# Altium integrated library NSC MiscPower.IntLib: 742 symbols (part 8 of 19)
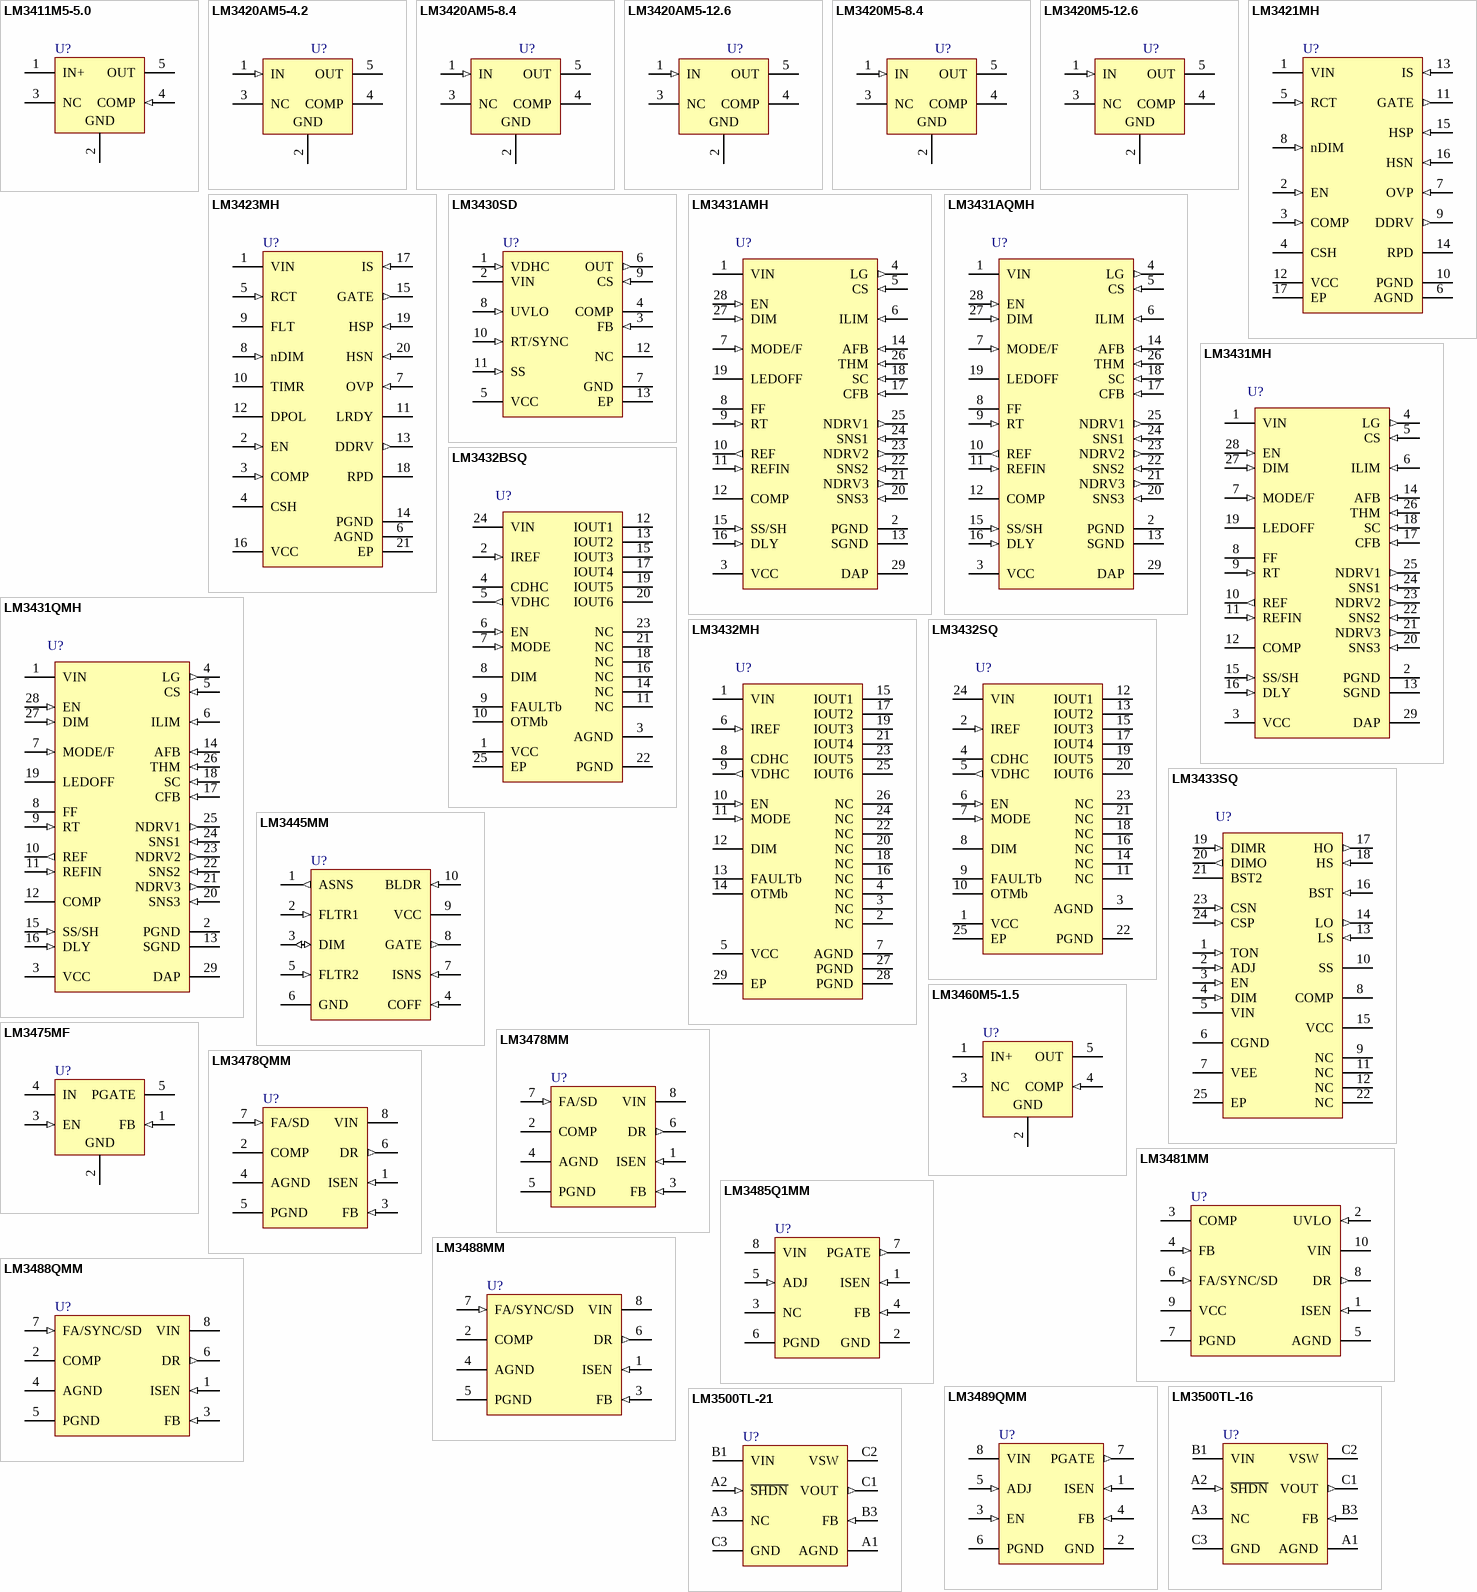
[diagram p32: symbols LM3411M5-5.0 to LM3500TL-21]

## LM3481MM
designator U?
High Efficiency Low-Side N-Channel Controller for Switching Regulators; PartNumber: LM3481MM; Manufacturer: National Semiconductor; CompType: MiscPower; PackageTopMarking: ZXTT*SJPB; PowerWise: N; Published: 4-Dec-2008; DatasheetVersion: Nov-2007; PackageVersion: revB, Jul-2003; PackageReference: MUB10A; Publisher: Altium Limited; PackageDescription: Mini-SO, Molded, .118 x .118 x .034in Body, 10 Lead, .0197in Pitch; RoHS: Y; PinCount: 10; DigiKeyPartNumber: LM3481MMCT-ND; Code_JEDEC: MO-187-BA; ComponentLink1Description: LM3481 Datasheet; ComponentLink1URL: http://www.national.com/ds/LM/LM3481.pdf; ComponentLink2Description: LM3481 Web Page; ComponentLink2URL: http://www.national.com/pf/LM/LM3481.html; ComponentLink3Description: MUB10A Package Page; ComponentLink3URL: http://www.national.com/packaging/folders/mub10a.html
footprint MUB10A_N (TSSOP, 10-Leads, Body 3x3mm, Pitch 0.5mm, IPC Medium Density)
footprint MUB10A_L (TSSOP, 10-Leads, Body 3x3mm, Pitch 0.5mm, IPC High Density)
footprint MUB10A_M (TSSOP, 10-Leads, Body 3x3mm, Pitch 0.5mm, IPC Low Density)
pins: 1 ISEN (in), 2 UVLO (in), 3 COMP, 4 FB (in), 5 AGND (power), 6 FA/SYNC/SD (in), 7 PGND (power), 8 DR (out), 9 VCC (power), 10 VIN (power)

## LM3485Q1MM
designator U?
Hysteretic PFET Buck Controller, Automotive Grade 1; PartNumber: LM3485Q1MM; Manufacturer: National Semiconductor; CompType: MiscPower; PackageTopMarking: ZXTT*SVJB; PowerWise: N; Published: 29-May-2009; DatasheetVersion: Mar-2009; PackageVersion: revF, Apr-2008; PackageReference: MUA08A; Publisher: Altium Limited; PackageDescription: MINI SOIC, .118 x .118 x .034in, 8 Lead, .0256in Pitch; RoHS: Y; PinCount: 8; Code_JEDEC: MO-187-AA; ComponentLink1Description: LM3485 Datasheet; ComponentLink1URL: http://www.national.com/ds/LM/LM3485.pdf; ComponentLink2Description: LM3485 Web Page; ComponentLink2URL: http://www.national.com/mpf/LM/LM3485.html; ComponentLink3Description: MUA08A Package Page; ComponentLink3URL: http://www.national.com/packaging/folders/mua08a.html
footprint MUA08A_N (TSOP, 8-Leads, Body 3x3mm, Pitch 0.65mm, IPC Medium Density)
footprint MUA08A_L (TSOP, 8-Leads, Body 3x3mm, Pitch 0.65mm, IPC High Density)
footprint MUA08A_M (TSOP, 8-Leads, Body 3x3mm, Pitch 0.65mm, IPC Low Density)
pins: 1 ISEN (in), 2 GND (power), 3 NC, 4 FB (in), 5 ADJ (in), 6 PGND (power), 7 PGATE (out), 8 VIN (power)

## LM3488MM
designator U?
High Efficiency Low-Side N-Channel Controller for Switching Regulator; PartNumber: LM3488MM; Manufacturer: National Semiconductor; CompType: MiscPower; PackageTopMarking: ZXTT*S21B; PowerWise: N; Published: 4-Dec-2008; DatasheetVersion: Mar-2009; PackageVersion: revF, Apr-2008; PackageReference: MUA08A; Publisher: Altium Limited; PackageDescription: MINI SOIC, .118 x .118 x .034in, 8 Lead, .0256in Pitch; RoHS: O; PinCount: 8; DigiKeyPartNumber: LM3488MMCT-ND; Code_JEDEC: MO-187-AA; ComponentLink1Description: LM3488 Datasheet; ComponentLink1URL: http://www.national.com/ds/LM/LM3488.pdf; ComponentLink2Description: LM3488 Web Page; ComponentLink2URL: http://www.national.com/pf/LM/LM3488.html; ComponentLink3Description: MUA08A Package Page; ComponentLink3URL: http://www.national.com/packaging/folders/mua08a.html
footprint MUA08A_N (TSOP, 8-Leads, Body 3x3mm, Pitch 0.65mm, IPC Medium Density)
footprint MUA08A_L (TSOP, 8-Leads, Body 3x3mm, Pitch 0.65mm, IPC High Density)
footprint MUA08A_M (TSOP, 8-Leads, Body 3x3mm, Pitch 0.65mm, IPC Low Density)
pins: 1 ISEN (in), 2 COMP, 3 FB (in), 4 AGND (power), 5 PGND (power), 6 DR (out), 7 FA/SYNC/SD (in), 8 VIN (power)

## LM3488QMM
designator U?
High Efficiency Low-Side N-Channel Controller for Switching Regulator, Automotive Grade 1; PartNumber: LM3488QMM; Manufacturer: National Semiconductor; CompType: MiscPower; PackageTopMarking: ZXTT*SSKB; PowerWise: N; Published: 29-May-2009; DatasheetVersion: Mar-2009; PackageVersion: revF, Apr-2008; PackageReference: MUA08A; Publisher: Altium Limited; PackageDescription: MINI SOIC, .118 x .118 x .034in, 8 Lead, .0256in Pitch; RoHS: Y; PinCount: 8; Code_JEDEC: MO-187-AA; ComponentLink1Description: LM3488 Datasheet; ComponentLink1URL: http://www.national.com/ds/LM/LM3488.pdf; ComponentLink2Description: LM3488 Web Page; ComponentLink2URL: http://www.national.com/mpf/LM/LM3488Q.html; ComponentLink3Description: MUA08A Package Page; ComponentLink3URL: http://www.national.com/packaging/folders/mua08a.html
footprint MUA08A_N (TSOP, 8-Leads, Body 3x3mm, Pitch 0.65mm, IPC Medium Density)
footprint MUA08A_L (TSOP, 8-Leads, Body 3x3mm, Pitch 0.65mm, IPC High Density)
footprint MUA08A_M (TSOP, 8-Leads, Body 3x3mm, Pitch 0.65mm, IPC Low Density)
pins: 1 ISEN (in), 2 COMP, 3 FB (in), 4 AGND (power), 5 PGND (power), 6 DR (out), 7 FA/SYNC/SD (in), 8 VIN (power)

## LM3489QMM
designator U?
Hysteretic PFET Buck Controller with Enable Pin; PartNumber: LM3489QMM; Manufacturer: National Semiconductor; CompType: MiscPower; PackageTopMarking: ZXTT*STEB; PowerWise: N; Published: 4-Dec-2008; DatasheetVersion: Jun-2008; PackageVersion: revF, Apr-2008; PackageReference: MUA08A; Publisher: Altium Limited; PackageDescription: MINI SOIC, .118 x .118 x .034in, 8 Lead, .0256in Pitch; RoHS: Y; PinCount: 8; Code_JEDEC: MO-187-AA; ComponentLink1Description: LM3489 Datasheet; ComponentLink1URL: http://www.national.com/ds/LM/LM3489.pdf; ComponentLink2Description: LM3489 Web Page; ComponentLink2URL: http://www.national.com/pf/LM/LM3489.html; ComponentLink3Description: MUA08A Package Page; ComponentLink3URL: http://www.national.com/packaging/folders/mua08a.html
footprint MUA08A_N (TSOP, 8-Leads, Body 3x3mm, Pitch 0.65mm, IPC Medium Density)
footprint MUA08A_L (TSOP, 8-Leads, Body 3x3mm, Pitch 0.65mm, IPC High Density)
footprint MUA08A_M (TSOP, 8-Leads, Body 3x3mm, Pitch 0.65mm, IPC Low Density)
pins: 1 ISEN (in), 2 GND (power), 3 EN (in), 4 FB (in), 5 ADJ (in), 6 PGND (power), 7 PGATE (out), 8 VIN (power)

## LM3500TL-16
designator U?
Synchronous Step-up DC/DC Converter for White LED Applications; PartNumber: LM3500TL-16; Manufacturer: National Semiconductor; CompType: MiscPower; PackageTopMarking: XVS*I 18; PowerWise: N; Published: 4-Dec-2008; DatasheetVersion: Feb-2005; PackageVersion: revC, Jan-2004; PackageReference: TLA08SSA; Publisher: Altium Limited; PackageDescription: Thin Micro SMD, 8 Bump (Large), 0.5mm Pitch; RoHS: Y; PinCount: 8; DigiKeyPartNumber: LM3500TL-16-ND; Code_JEDEC: MO-211-DD; ComponentLink1Description: LM3500 Datasheet; ComponentLink1URL: http://www.national.com/ds/LM/LM3500.pdf; ComponentLink2Description: LM3500 Web Page; ComponentLink2URL: http://www.national.com/pf/LM/LM3500.html; ComponentLink3Description: TLA08SSA Package Page; ComponentLink3URL: http://www.national.com/packaging/folders/tla08ssa.html
footprint TLA08SSA (Micro SMD, 8-Leads, Body 1.92x1.92mm, Pitch 0.5mm, NSC Recommended)
pins: A1 AGND (power), A2 ~{SHDN} (in), A3 NC, B1 VIN (power), B3 FB (in), C1 VOUT (out), C2 VSW, C3 GND (power)

## LM3500TL-21
designator U?
Synchronous Step-up DC/DC Converter for White LED Applications; PartNumber: LM3500TL-21; Manufacturer: National Semiconductor; CompType: MiscPower; PackageTopMarking: XVS*I 23; PowerWise: N; Published: 4-Dec-2008; DatasheetVersion: Feb-2005; PackageVersion: revC, Jan-2004; PackageReference: TLA08SSA; Publisher: Altium Limited; PackageDescription: Thin Micro SMD, 8 Bump (Large), 0.5mm Pitch; RoHS: Y; PinCount: 8; DigiKeyPartNumber: LM3500TL-21CT-ND; Code_JEDEC: MO-211-DD; ComponentLink1Description: LM3500 Datasheet; ComponentLink1URL: http://www.national.com/ds/LM/LM3500.pdf; ComponentLink2Description: LM3500 Web Page; ComponentLink2URL: http://www.national.com/pf/LM/LM3500.html; ComponentLink3Description: TLA08SSA Package Page; ComponentLink3URL: http://www.national.com/packaging/folders/tla08ssa.html
footprint TLA08SSA (Micro SMD, 8-Leads, Body 1.92x1.92mm, Pitch 0.5mm, NSC Recommended)
pins: A1 AGND (power), A2 ~{SHDN} (in), A3 NC, B1 VIN (power), B3 FB (in), C1 VOUT (out), C2 VSW, C3 GND (power)

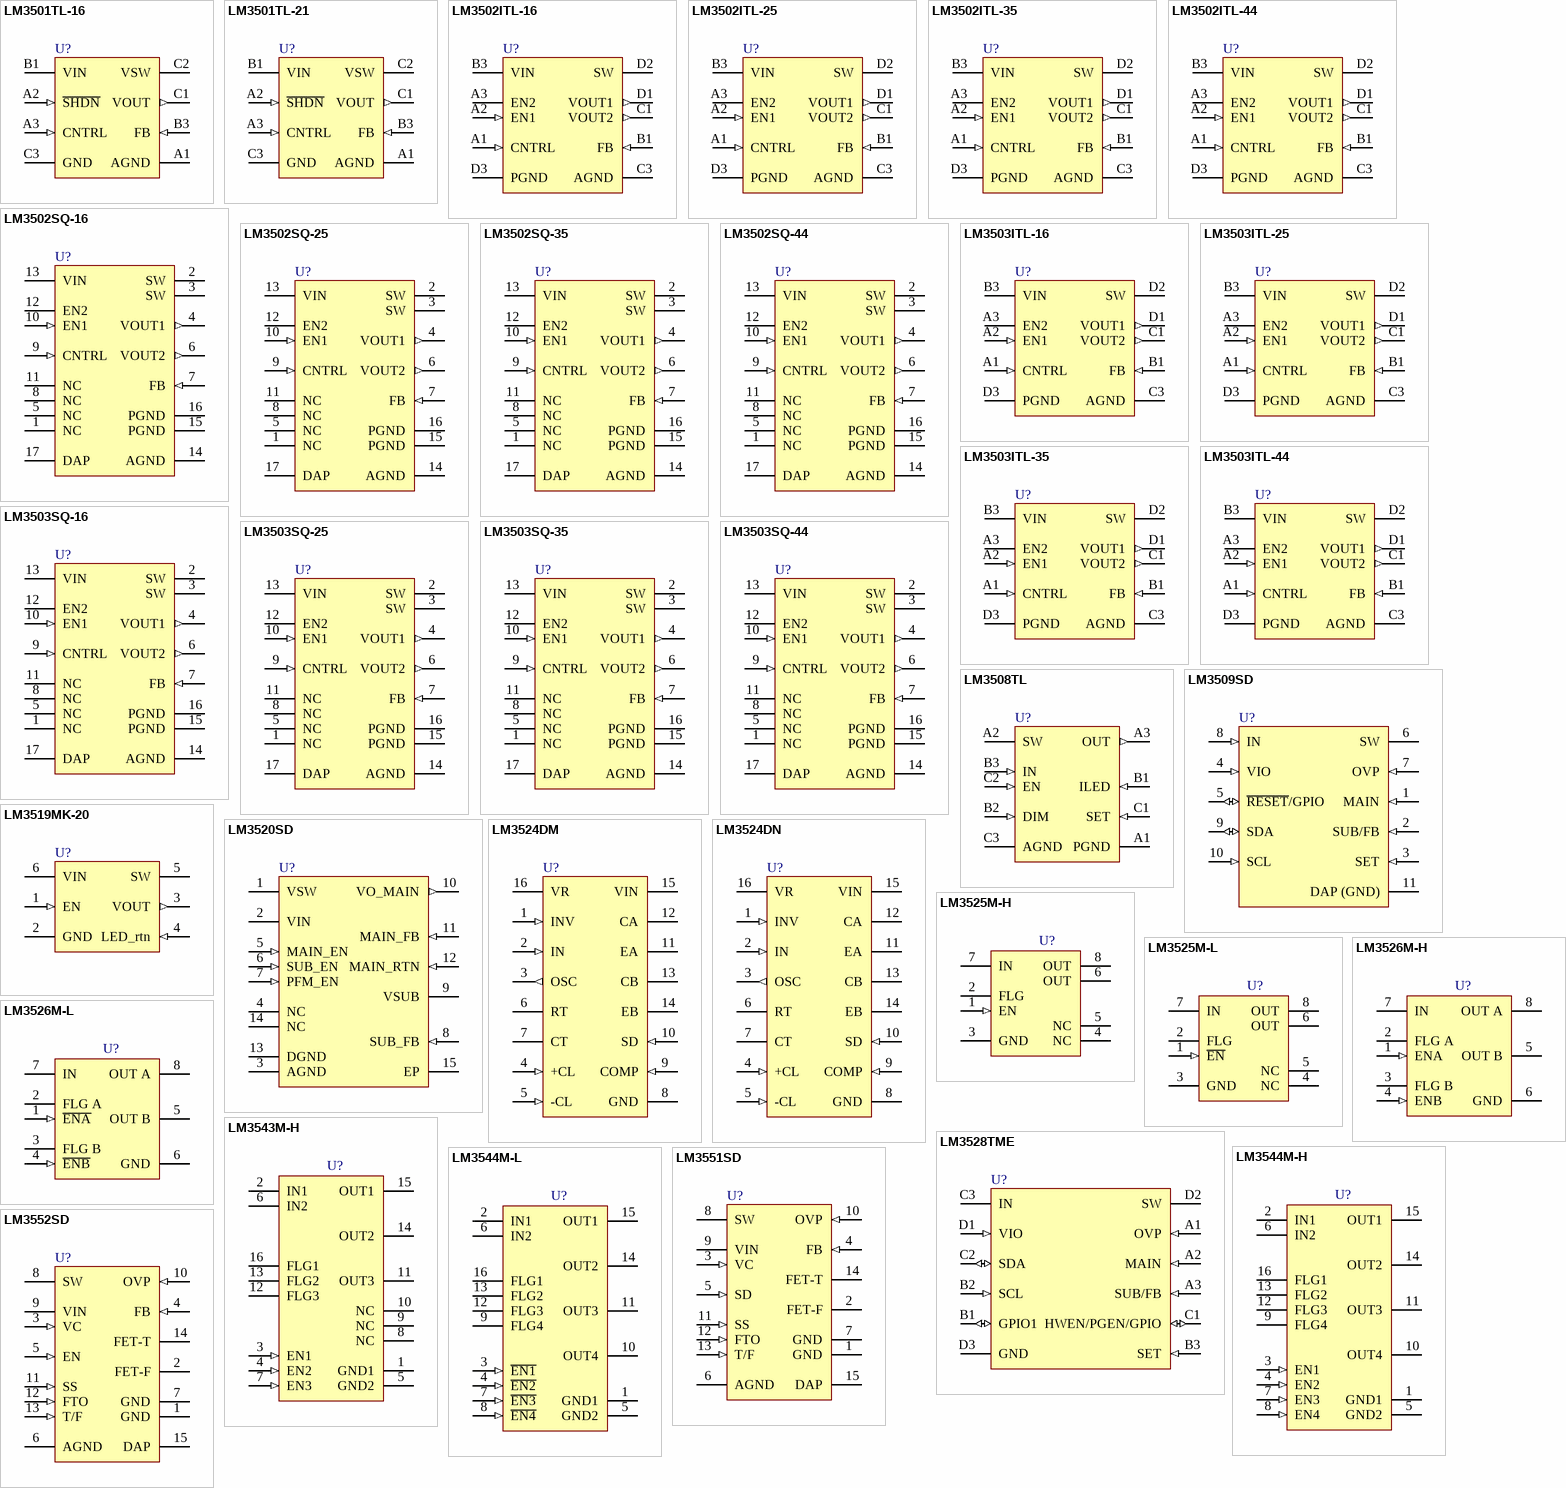
[diagram p9: symbols LM3501TL-16 to LM3552SD]

## LM3501TL-16
designator U?
Synchronous Step-up DC/DC Converter for White LED Applications; PartNumber: LM3501TL-16; Manufacturer: National Semiconductor; CompType: MiscPower; PackageTopMarking: XVS*I 19; PowerWise: N; Published: 4-Dec-2008; DatasheetVersion: May-2005; PackageVersion: revC, Jan-2004; PackageReference: TLA08SSA; Publisher: Altium Limited; PackageDescription: Thin Micro SMD, 8 Bump (Large), 0.5mm Pitch; RoHS: O; PinCount: 8; DigiKeyPartNumber: LM3501TL-16EV-ND; Code_JEDEC: MO-211-DD; ComponentLink1Description: LM3501 Datasheet; ComponentLink1URL: http://www.national.com/ds/LM/LM3501.pdf; ComponentLink2Description: LM3501 Web Page; ComponentLink2URL: http://www.national.com/pf/LM/LM3501.html; ComponentLink3Description: TLA08SSA Package Page; ComponentLink3URL: http://www.national.com/packaging/folders/tla08ssa.html
footprint TLA08SSA (Micro SMD, 8-Leads, Body 1.92x1.92mm, Pitch 0.5mm, NSC Recommended)
pins: A1 AGND (power), A2 ~{SHDN} (in), A3 CNTRL (in), B1 VIN (power), B3 FB (in), C1 VOUT (out), C2 VSW, C3 GND (power)

## LM3501TL-21
designator U?
Synchronous Step-up DC/DC Converter for White LED Applications; PartNumber: LM3501TL-21; Manufacturer: National Semiconductor; CompType: MiscPower; PackageTopMarking: XVS*I 30; PowerWise: N; Published: 4-Dec-2008; DatasheetVersion: May-2005; PackageVersion: revC, Jan-2004; PackageReference: TLA08SSA; Publisher: Altium Limited; PackageDescription: Thin Micro SMD, 8 Bump (Large), 0.5mm Pitch; RoHS: Y; PinCount: 8; DigiKeyPartNumber: LM3501TL-21CT-ND; Code_JEDEC: MO-211-DD; ComponentLink1Description: LM3501 Datasheet; ComponentLink1URL: http://www.national.com/ds/LM/LM3501.pdf; ComponentLink2Description: LM3501 Web Page; ComponentLink2URL: http://www.national.com/pf/LM/LM3501.html; ComponentLink3Description: TLA08SSA Package Page; ComponentLink3URL: http://www.national.com/packaging/folders/tla08ssa.html
footprint TLA08SSA (Micro SMD, 8-Leads, Body 1.92x1.92mm, Pitch 0.5mm, NSC Recommended)
pins: A1 AGND (power), A2 ~{SHDN} (in), A3 CNTRL (in), B1 VIN (power), B3 FB (in), C1 VOUT (out), C2 VSW, C3 GND (power)

## LM3502ITL-16
designator U?
Step-Up Converter for White LED Applications; PartNumber: LM3502ITL-16; Manufacturer: National Semiconductor; CompType: MiscPower; PackageTopMarking: XYTT*I SANB; PowerWise: Y; Published: 4-Dec-2008; DatasheetVersion: Aug-2006; PackageVersion: revD, Mar-2004; PackageReference: TLP10RDA; Publisher: Altium Limited; PackageDescription: Thin Micro SMD, 10 Bump (Large), Periperal, 0.5mm Pitch; RoHS: Y; PinCount: 10; DigiKeyPartNumber: LM3502ITL-16CT-ND; Code_JEDEC: MO-211-BD; ComponentLink1Description: LM3502 Datasheet; ComponentLink1URL: http://www.national.com/ds/LM/LM3502.pdf; ComponentLink2Description: LM3502 Web Page; ComponentLink2URL: http://www.national.com/pf/LM/LM3502.html; ComponentLink3Description: TLP10RDA Package Page; ComponentLink3URL: http://www.national.com/packaging/folders/tlp10rda.html
footprint TLP10RDA (Micro SMD, 10-Leads, Body 2.07x1.9mm, Pitch 0.5mm, NSC Recommended)
pins: A1 CNTRL (in), A2 EN1 (in), A3 EN2, B1 FB (in), B3 VIN (power), C1 VOUT2 (out), C3 AGND (power), D1 VOUT1 (out), D2 SW (power), D3 PGND (power)

## LM3502ITL-25
designator U?
Step-Up Converter for White LED Applications; PartNumber: LM3502ITL-25; Manufacturer: National Semiconductor; CompType: MiscPower; PackageTopMarking: XYTT*I SAPB; PowerWise: Y; Published: 4-Dec-2008; DatasheetVersion: Aug-2006; PackageVersion: revD, Mar-2004; PackageReference: TLP10RDA; Publisher: Altium Limited; PackageDescription: Thin Micro SMD, 10 Bump (Large), Periperal, 0.5mm Pitch; RoHS: Y; PinCount: 10; DigiKeyPartNumber: LM3502ITL-25CT-ND; Code_JEDEC: MO-211-BD; ComponentLink1Description: LM3502 Datasheet; ComponentLink1URL: http://www.national.com/ds/LM/LM3502.pdf; ComponentLink2Description: LM3502 Web Page; ComponentLink2URL: http://www.national.com/pf/LM/LM3502.html; ComponentLink3Description: TLP10RDA Package Page; ComponentLink3URL: http://www.national.com/packaging/folders/tlp10rda.html
footprint TLP10RDA (Micro SMD, 10-Leads, Body 2.07x1.9mm, Pitch 0.5mm, NSC Recommended)
pins: A1 CNTRL (in), A2 EN1 (in), A3 EN2, B1 FB (in), B3 VIN (power), C1 VOUT2 (out), C3 AGND (power), D1 VOUT1 (out), D2 SW (power), D3 PGND (power)

## LM3502ITL-35
designator U?
Step-Up Converter for White LED Applications; PartNumber: LM3502ITL-35; Manufacturer: National Semiconductor; CompType: MiscPower; PackageTopMarking: XYTT*I SARB; PowerWise: Y; Published: 4-Dec-2008; DatasheetVersion: Aug-2006; PackageVersion: revD, Mar-2004; PackageReference: TLP10RDA; Publisher: Altium Limited; PackageDescription: Thin Micro SMD, 10 Bump (Large), Periperal, 0.5mm Pitch; RoHS: Y; PinCount: 10; DigiKeyPartNumber: LM3502ITL-35-ND; Code_JEDEC: MO-211-BD; ComponentLink1Description: LM3502 Datasheet; ComponentLink1URL: http://www.national.com/ds/LM/LM3502.pdf; ComponentLink2Description: LM3502 Web Page; ComponentLink2URL: http://www.national.com/pf/LM/LM3502.html; ComponentLink3Description: TLP10RDA Package Page; ComponentLink3URL: http://www.national.com/packaging/folders/tlp10rda.html
footprint TLP10RDA (Micro SMD, 10-Leads, Body 2.07x1.9mm, Pitch 0.5mm, NSC Recommended)
pins: A1 CNTRL (in), A2 EN1 (in), A3 EN2, B1 FB (in), B3 VIN (power), C1 VOUT2 (out), C3 AGND (power), D1 VOUT1 (out), D2 SW (power), D3 PGND (power)

## LM3502ITL-44
designator U?
Step-Up Converter for White LED Applications; PartNumber: LM3502ITL-44; Manufacturer: National Semiconductor; CompType: MiscPower; PackageTopMarking: XYTT*I SDLB; PowerWise: Y; Published: 4-Dec-2008; DatasheetVersion: Aug-2006; PackageVersion: revD, Mar-2004; PackageReference: TLP10RDA; Publisher: Altium Limited; PackageDescription: Thin Micro SMD, 10 Bump (Large), Periperal, 0.5mm Pitch; RoHS: Y; PinCount: 10; DigiKeyPartNumber: LM3502ITL-44EV-ND; Code_JEDEC: MO-211-BD; ComponentLink1Description: LM3502 Datasheet; ComponentLink1URL: http://www.national.com/ds/LM/LM3502.pdf; ComponentLink2Description: LM3502 Web Page; ComponentLink2URL: http://www.national.com/pf/LM/LM3502.html; ComponentLink3Description: TLP10RDA Package Page; ComponentLink3URL: http://www.national.com/packaging/folders/tlp10rda.html
footprint TLP10RDA (Micro SMD, 10-Leads, Body 2.07x1.9mm, Pitch 0.5mm, NSC Recommended)
pins: A1 CNTRL (in), A2 EN1 (in), A3 EN2, B1 FB (in), B3 VIN (power), C1 VOUT2 (out), C3 AGND (power), D1 VOUT1 (out), D2 SW (power), D3 PGND (power)

## LM3502SQ-16
designator U?
Step-Up Converter for White LED Applications; PartNumber: LM3502SQ-16; Manufacturer: National Semiconductor; CompType: MiscPower; PackageTopMarking: NS*UZXYTT*L00048B; PowerWise: Y; Published: 4-Dec-2008; DatasheetVersion: Aug-2006; PackageVersion: revA, Oct-2003; PackageReference: SQA16A; Publisher: Altium Limited; PackageDescription: LLP, Plastic, Quad, 4 x 4 x 0.8mm Body, 16 Lead, 0.5mm Pitch, No Pullback; RoHS: Y; PinCount: 16; DigiKeyPartNumber: LM3502SQ-16CT-ND; ComponentLink1Description: LM3502 Datasheet; ComponentLink1URL: http://www.national.com/ds/LM/LM3502.pdf; ComponentLink2Description: LM3502 Web Page; ComponentLink2URL: http://www.national.com/pf/LM/LM3502.html; ComponentLink3Description: SQA16A Package Page; ComponentLink3URL: http://www.national.com/packaging/folders/sqa16a.html
footprint SQA16A (QFN, 16-Leads, Body 4x4mm, Pitch 0.5mm, NSC Recommended)
pins: 1 NC, 2 SW (power), 3 SW (power), 4 VOUT1 (out), 5 NC, 6 VOUT2 (out), 7 FB (in), 8 NC, 9 CNTRL (in), 10 EN1 (in), 11 NC, 12 EN2, 13 VIN (power), 14 AGND (power), 15 PGND (power), 16 PGND (power), 17 DAP (power)

## LM3502SQ-25
designator U?
Step-Up Converter for White LED Applications; PartNumber: LM3502SQ-25; Manufacturer: National Semiconductor; CompType: MiscPower; PackageTopMarking: NS*UZXYTT*L00049B; PowerWise: Y; Published: 4-Dec-2008; DatasheetVersion: Aug-2006; PackageVersion: revA, Oct-2003; PackageReference: SQA16A; Publisher: Altium Limited; PackageDescription: LLP, Plastic, Quad, 4 x 4 x 0.8mm Body, 16 Lead, 0.5mm Pitch, No Pullback; RoHS: Y; PinCount: 16; DigiKeyPartNumber: LM3502SQ-25CT-ND; ComponentLink1Description: LM3502 Datasheet; ComponentLink1URL: http://www.national.com/ds/LM/LM3502.pdf; ComponentLink2Description: LM3502 Web Page; ComponentLink2URL: http://www.national.com/pf/LM/LM3502.html; ComponentLink3Description: SQA16A Package Page; ComponentLink3URL: http://www.national.com/packaging/folders/sqa16a.html
footprint SQA16A (QFN, 16-Leads, Body 4x4mm, Pitch 0.5mm, NSC Recommended)
pins: 1 NC, 2 SW (power), 3 SW (power), 4 VOUT1 (out), 5 NC, 6 VOUT2 (out), 7 FB (in), 8 NC, 9 CNTRL (in), 10 EN1 (in), 11 NC, 12 EN2, 13 VIN (power), 14 AGND (power), 15 PGND (power), 16 PGND (power), 17 DAP (power)

## LM3502SQ-35
designator U?
Step-Up Converter for White LED Applications; PartNumber: LM3502SQ-35; Manufacturer: National Semiconductor; CompType: MiscPower; PackageTopMarking: NS*UZXYTT*L00044B; PowerWise: Y; Published: 4-Dec-2008; DatasheetVersion: Aug-2006; PackageVersion: revA, Oct-2003; PackageReference: SQA16A; Publisher: Altium Limited; PackageDescription: LLP, Plastic, Quad, 4 x 4 x 0.8mm Body, 16 Lead, 0.5mm Pitch, No Pullback; RoHS: Y; PinCount: 16; DigiKeyPartNumber: LM3502SQ-35CT-ND; ComponentLink1Description: LM3502 Datasheet; ComponentLink1URL: http://www.national.com/ds/LM/LM3502.pdf; ComponentLink2Description: LM3502 Web Page; ComponentLink2URL: http://www.national.com/pf/LM/LM3502.html; ComponentLink3Description: SQA16A Package Page; ComponentLink3URL: http://www.national.com/packaging/folders/sqa16a.html
footprint SQA16A (QFN, 16-Leads, Body 4x4mm, Pitch 0.5mm, NSC Recommended)
pins: 1 NC, 2 SW (power), 3 SW (power), 4 VOUT1 (out), 5 NC, 6 VOUT2 (out), 7 FB (in), 8 NC, 9 CNTRL (in), 10 EN1 (in), 11 NC, 12 EN2, 13 VIN (power), 14 AGND (power), 15 PGND (power), 16 PGND (power), 17 DAP (power)

## LM3502SQ-44
designator U?
Step-Up Converter for White LED Applications; PartNumber: LM3502SQ-44; Manufacturer: National Semiconductor; CompType: MiscPower; PackageTopMarking: NS*UZXYTT*L00050B; PowerWise: Y; Published: 4-Dec-2008; DatasheetVersion: Aug-2006; PackageVersion: revA, Oct-2003; PackageReference: SQA16A; Publisher: Altium Limited; PackageDescription: LLP, Plastic, Quad, 4 x 4 x 0.8mm Body, 16 Lead, 0.5mm Pitch, No Pullback; RoHS: Y; PinCount: 16; DigiKeyPartNumber: LM3502SQ-44CT-ND; ComponentLink1Description: LM3502 Datasheet; ComponentLink1URL: http://www.national.com/ds/LM/LM3502.pdf; ComponentLink2Description: LM3502 Web Page; ComponentLink2URL: http://www.national.com/pf/LM/LM3502.html; ComponentLink3Description: SQA16A Package Page; ComponentLink3URL: http://www.national.com/packaging/folders/sqa16a.html
footprint SQA16A (QFN, 16-Leads, Body 4x4mm, Pitch 0.5mm, NSC Recommended)
pins: 1 NC, 2 SW (power), 3 SW (power), 4 VOUT1 (out), 5 NC, 6 VOUT2 (out), 7 FB (in), 8 NC, 9 CNTRL (in), 10 EN1 (in), 11 NC, 12 EN2, 13 VIN (power), 14 AGND (power), 15 PGND (power), 16 PGND (power), 17 DAP (power)

## LM3503ITL-16
designator U?
Dual-Display Constant Current LED Driver with Analog Brightness Control; PartNumber: LM3503ITL-16; Manufacturer: National Semiconductor; CompType: MiscPower; PackageTopMarking: XYTT*I SBHB; PowerWise: Y; Published: 4-Dec-2008; DatasheetVersion: Aug-2006; PackageVersion: revD, Mar-2004; PackageReference: TLP10RDA; Publisher: Altium Limited; PackageDescription: Thin Micro SMD, 10 Bump (Large), Periperal, 0.5mm Pitch; RoHS: Y; PinCount: 10; DigiKeyPartNumber: LM3503ITL-16CT-ND; Code_JEDEC: MO-211-BD; ComponentLink1Description: LM3503 Datasheet; ComponentLink1URL: http://www.national.com/ds/LM/LM3503.pdf; ComponentLink2Description: LM3503 Web Page; ComponentLink2URL: http://www.national.com/pf/LM/LM3503.html; ComponentLink3Description: TLP10RDA Package Page; ComponentLink3URL: http://www.national.com/packaging/folders/tlp10rda.html
footprint TLP10RDA (Micro SMD, 10-Leads, Body 2.07x1.9mm, Pitch 0.5mm, NSC Recommended)
pins: A1 CNTRL (in), A2 EN1 (in), A3 EN2, B1 FB (in), B3 VIN (power), C1 VOUT2 (out), C3 AGND (power), D1 VOUT1 (out), D2 SW (power), D3 PGND (power)

## LM3503ITL-25
designator U?
Dual-Display Constant Current LED Driver with Analog Brightness Control; PartNumber: LM3503ITL-25; Manufacturer: National Semiconductor; CompType: MiscPower; PackageTopMarking: XYTT*I SBJB; PowerWise: Y; Published: 4-Dec-2008; DatasheetVersion: Aug-2006; PackageVersion: revD, Mar-2004; PackageReference: TLP10RDA; Publisher: Altium Limited; PackageDescription: Thin Micro SMD, 10 Bump (Large), Periperal, 0.5mm Pitch; RoHS: Y; PinCount: 10; DigiKeyPartNumber: LM3503ITL-25EV-ND; Code_JEDEC: MO-211-BD; ComponentLink1Description: LM3503 Datasheet; ComponentLink1URL: http://www.national.com/ds/LM/LM3503.pdf; ComponentLink2Description: LM3503 Web Page; ComponentLink2URL: http://www.national.com/pf/LM/LM3503.html; ComponentLink3Description: TLP10RDA Package Page; ComponentLink3URL: http://www.national.com/packaging/folders/tlp10rda.html
footprint TLP10RDA (Micro SMD, 10-Leads, Body 2.07x1.9mm, Pitch 0.5mm, NSC Recommended)
pins: A1 CNTRL (in), A2 EN1 (in), A3 EN2, B1 FB (in), B3 VIN (power), C1 VOUT2 (out), C3 AGND (power), D1 VOUT1 (out), D2 SW (power), D3 PGND (power)

## LM3503ITL-35
designator U?
Dual-Display Constant Current LED Driver with Analog Brightness Control; PartNumber: LM3503ITL-35; Manufacturer: National Semiconductor; CompType: MiscPower; PackageTopMarking: XYTT*I SBKB; PowerWise: Y; Published: 4-Dec-2008; DatasheetVersion: Aug-2006; PackageVersion: revD, Mar-2004; PackageReference: TLP10RDA; Publisher: Altium Limited; PackageDescription: Thin Micro SMD, 10 Bump (Large), Periperal, 0.5mm Pitch; RoHS: Y; PinCount: 10; DigiKeyPartNumber: LM3503ITL-35CT-ND; Code_JEDEC: MO-211-BD; ComponentLink1Description: LM3503 Datasheet; ComponentLink1URL: http://www.national.com/ds/LM/LM3503.pdf; ComponentLink2Description: LM3503 Web Page; ComponentLink2URL: http://www.national.com/pf/LM/LM3503.html; ComponentLink3Description: TLP10RDA Package Page; ComponentLink3URL: http://www.national.com/packaging/folders/tlp10rda.html
footprint TLP10RDA (Micro SMD, 10-Leads, Body 2.07x1.9mm, Pitch 0.5mm, NSC Recommended)
pins: A1 CNTRL (in), A2 EN1 (in), A3 EN2, B1 FB (in), B3 VIN (power), C1 VOUT2 (out), C3 AGND (power), D1 VOUT1 (out), D2 SW (power), D3 PGND (power)

## LM3503ITL-44
designator U?
Dual-Display Constant Current LED Driver with Analog Brightness Control; PartNumber: LM3503ITL-44; Manufacturer: National Semiconductor; CompType: MiscPower; PackageTopMarking: XYTT*I SDNB; PowerWise: Y; Published: 4-Dec-2008; DatasheetVersion: Aug-2006; PackageVersion: revD, Mar-2004; PackageReference: TLP10RDA; Publisher: Altium Limited; PackageDescription: Thin Micro SMD, 10 Bump (Large), Periperal, 0.5mm Pitch; RoHS: Y; PinCount: 10; DigiKeyPartNumber: LM3503ITL-44CT-ND; Code_JEDEC: MO-211-BD; ComponentLink1Description: LM3503 Datasheet; ComponentLink1URL: http://www.national.com/ds/LM/LM3503.pdf; ComponentLink2Description: LM3503 Web Page; ComponentLink2URL: http://www.national.com/pf/LM/LM3503.html; ComponentLink3Description: TLP10RDA Package Page; ComponentLink3URL: http://www.national.com/packaging/folders/tlp10rda.html
footprint TLP10RDA (Micro SMD, 10-Leads, Body 2.07x1.9mm, Pitch 0.5mm, NSC Recommended)
pins: A1 CNTRL (in), A2 EN1 (in), A3 EN2, B1 FB (in), B3 VIN (power), C1 VOUT2 (out), C3 AGND (power), D1 VOUT1 (out), D2 SW (power), D3 PGND (power)

## LM3503SQ-16
designator U?
Dual-Display Constant Current LED Driver with Analog Brightness Control; PartNumber: LM3503SQ-16; Manufacturer: National Semiconductor; CompType: MiscPower; PackageTopMarking: NS*UZXYTT*L00045B; PowerWise: Y; Published: 4-Dec-2008; DatasheetVersion: Aug-2006; PackageVersion: revA, Oct-2003; PackageReference: SQA16A; Publisher: Altium Limited; PackageDescription: LLP, Plastic, Quad, 4 x 4 x 0.8mm Body, 16 Lead, 0.5mm Pitch, No Pullback; RoHS: Y; PinCount: 16; DigiKeyPartNumber: LM3503SQ-16CT-ND; ComponentLink1Description: LM3503 Datasheet; ComponentLink1URL: http://www.national.com/ds/LM/LM3503.pdf; ComponentLink2Description: LM3503 Web Page; ComponentLink2URL: http://www.national.com/pf/LM/LM3503.html; ComponentLink3Description: SQA16A Package Page; ComponentLink3URL: http://www.national.com/packaging/folders/sqa16a.html
footprint SQA16A (QFN, 16-Leads, Body 4x4mm, Pitch 0.5mm, NSC Recommended)
pins: 1 NC, 2 SW (power), 3 SW (power), 4 VOUT1 (out), 5 NC, 6 VOUT2 (out), 7 FB (in), 8 NC, 9 CNTRL (in), 10 EN1 (in), 11 NC, 12 EN2, 13 VIN (power), 14 AGND (power), 15 PGND (power), 16 PGND (power), 17 DAP (power)

## LM3503SQ-25
designator U?
Dual-Display Constant Current LED Driver with Analog Brightness Control; PartNumber: LM3503SQ-25; Manufacturer: National Semiconductor; CompType: MiscPower; PackageTopMarking: NS*UZXYTT*L00046B; PowerWise: Y; Published: 4-Dec-2008; DatasheetVersion: Aug-2006; PackageVersion: revA, Oct-2003; PackageReference: SQA16A; Publisher: Altium Limited; PackageDescription: LLP, Plastic, Quad, 4 x 4 x 0.8mm Body, 16 Lead, 0.5mm Pitch, No Pullback; RoHS: Y; PinCount: 16; DigiKeyPartNumber: LM3503SQ-25CT-ND; ComponentLink1Description: LM3503 Datasheet; ComponentLink1URL: http://www.national.com/ds/LM/LM3503.pdf; ComponentLink2Description: LM3503 Web Page; ComponentLink2URL: http://www.national.com/pf/LM/LM3503.html; ComponentLink3Description: SQA16A Package Page; ComponentLink3URL: http://www.national.com/packaging/folders/sqa16a.html
footprint SQA16A (QFN, 16-Leads, Body 4x4mm, Pitch 0.5mm, NSC Recommended)
pins: 1 NC, 2 SW (power), 3 SW (power), 4 VOUT1 (out), 5 NC, 6 VOUT2 (out), 7 FB (in), 8 NC, 9 CNTRL (in), 10 EN1 (in), 11 NC, 12 EN2, 13 VIN (power), 14 AGND (power), 15 PGND (power), 16 PGND (power), 17 DAP (power)

## LM3503SQ-35
designator U?
Dual-Display Constant Current LED Driver with Analog Brightness Control; PartNumber: LM3503SQ-35; Manufacturer: National Semiconductor; CompType: MiscPower; PackageTopMarking: NS*UZXYTT*L00047B; PowerWise: Y; Published: 4-Dec-2008; DatasheetVersion: Aug-2006; PackageVersion: revA, Oct-2003; PackageReference: SQA16A; Publisher: Altium Limited; PackageDescription: LLP, Plastic, Quad, 4 x 4 x 0.8mm Body, 16 Lead, 0.5mm Pitch, No Pullback; RoHS: Y; PinCount: 16; DigiKeyPartNumber: LM3503SQ-35CT-ND; ComponentLink1Description: LM3503 Datasheet; ComponentLink1URL: http://www.national.com/ds/LM/LM3503.pdf; ComponentLink2Description: LM3503 Web Page; ComponentLink2URL: http://www.national.com/pf/LM/LM3503.html; ComponentLink3Description: SQA16A Package Page; ComponentLink3URL: http://www.national.com/packaging/folders/sqa16a.html
footprint SQA16A (QFN, 16-Leads, Body 4x4mm, Pitch 0.5mm, NSC Recommended)
pins: 1 NC, 2 SW (power), 3 SW (power), 4 VOUT1 (out), 5 NC, 6 VOUT2 (out), 7 FB (in), 8 NC, 9 CNTRL (in), 10 EN1 (in), 11 NC, 12 EN2, 13 VIN (power), 14 AGND (power), 15 PGND (power), 16 PGND (power), 17 DAP (power)

## LM3503SQ-44
designator U?
Dual-Display Constant Current LED Driver with Analog Brightness Control; PartNumber: LM3503SQ-44; Manufacturer: National Semiconductor; CompType: MiscPower; PackageTopMarking: NS*UZXYTT*L00053B; PowerWise: Y; Published: 4-Dec-2008; DatasheetVersion: Aug-2006; PackageVersion: revA, Oct-2003; PackageReference: SQA16A; Publisher: Altium Limited; PackageDescription: LLP, Plastic, Quad, 4 x 4 x 0.8mm Body, 16 Lead, 0.5mm Pitch, No Pullback; RoHS: Y; PinCount: 16; DigiKeyPartNumber: LM3503SQ-44CT-ND; ComponentLink1Description: LM3503 Datasheet; ComponentLink1URL: http://www.national.com/ds/LM/LM3503.pdf; ComponentLink2Description: LM3503 Web Page; ComponentLink2URL: http://www.national.com/pf/LM/LM3503.html; ComponentLink3Description: SQA16A Package Page; ComponentLink3URL: http://www.national.com/packaging/folders/sqa16a.html
footprint SQA16A (QFN, 16-Leads, Body 4x4mm, Pitch 0.5mm, NSC Recommended)
pins: 1 NC, 2 SW (power), 3 SW (power), 4 VOUT1 (out), 5 NC, 6 VOUT2 (out), 7 FB (in), 8 NC, 9 CNTRL (in), 10 EN1 (in), 11 NC, 12 EN2, 13 VIN (power), 14 AGND (power), 15 PGND (power), 16 PGND (power), 17 DAP (power)

## LM3508TL
designator U?
Synchronous Magnetic Constant Current White LED Driver; PartNumber: LM3508TL; Manufacturer: National Semiconductor; CompType: MiscPower; PackageTopMarking: XVD*I 31; PowerWise: Y; Published: 4-Dec-2008; DatasheetVersion: Mar-2008; PackageVersion: revC, Jan-2004; PackageReference: TLA09AAA; Publisher: Altium Limited; PackageDescription: Thin Micro SMD, 9 Bump (Large), 0.5mm Pitch; RoHS: Y; PinCount: 9; DigiKeyPartNumber: LM3508TLEV-ND; Code_JEDEC: MO-211-DD; ComponentLink1Description: LM3508 Datasheet; ComponentLink1URL: http://www.national.com/ds/LM/LM3508.pdf; ComponentLink2Description: LM3508 Web Page; ComponentLink2URL: http://www.national.com/pf/LM/LM3508.html; ComponentLink3Description: TLA09AAA Package Page; ComponentLink3URL: http://www.national.com/packaging/folders/tla09aaa.html
footprint TLA09AAA (Micro SMD, 9-Leads, Body 1.52x1.52mm, Pitch 0.5mm, NSC Recommended)
pins: A1 PGND (power), A2 SW (power), A3 OUT (out), B1 ILED (in), B2 DIM (in), B3 IN (in), C1 SET (in), C2 EN (in), C3 AGND (power)

## LM3509SD
designator U?
High Efficiency Boost for White LED's and/or OLED Displays with Dual Current Sinks and  IC Compatible Brightness Control; PartNumber: LM3509SD; Manufacturer: National Semiconductor; CompType: MiscPower; PackageTopMarking: ZXYTT*L3509; PowerWise: Y; Published: 4-Dec-2008; DatasheetVersion: Mar-2008; PackageVersion: revA, Oct-2003; PackageReference: SDA10A; Publisher: Altium Limited; PackageDescription: LLP, Plastic, Dual, 3 x 3 x 0.8mm Body, 10 Lead, 0.5mm Pitch, No Pullback; RoHS: Y; PinCount: 10; DigiKeyPartNumber: LM3509SDEV-ND; ComponentLink1Description: LM3509 Datasheet; ComponentLink1URL: http://www.national.com/ds/LM/LM3509.pdf; ComponentLink2Description: LM3509 Web Page; ComponentLink2URL: http://www.national.com/pf/LM/LM3509.html; ComponentLink3Description: SDA10A Package Page; ComponentLink3URL: http://www.national.com/packaging/folders/sda10a.html
footprint SDA10A (SON, 10-Leads, Body 3x3 mm, Pitch 0.5mm, NSC Recommended)
pins: 1 MAIN (in), 2 SUB/FB (in), 3 SET (in), 4 VIO (in), 5 ~{RESET}/GPIO (io), 6 SW (power), 7 OVP (in), 8 IN (in), 9 SDA (io), 10 SCL (in), 11 DAP (GND) (power)

## LM3519MK-20
designator U?
High Frequency Boost White LED Driver with High-Speed PWM Brightness Control; PartNumber: LM3519MK-20; Manufacturer: National Semiconductor; CompType: MiscPower; PackageTopMarking: D52B*XTT; PowerWise: Y; Published: 4-Dec-2008; DatasheetVersion: Sep-2005; PackageVersion: revD, Jul-2005; PackageReference: MK06A; Publisher: Altium Limited; PackageDescription: Molded TSOT, 2.97 x 1.65 x 0.87mm Body, 6 Lead, 0.95mm Pitch; RoHS: Y; PinCount: 6; DigiKeyPartNumber: LM3519MK-20CT-ND; Code_JEDEC: MO-193-AA; Code_IPC: SOT26A-6; ComponentLink1Description: LM3519 Datasheet; ComponentLink1URL: http://www.national.com/ds/LM/LM3519.pdf; ComponentLink2Description: LM3519 Web Page; ComponentLink2URL: http://www.national.com/pf/LM/LM3519.html; ComponentLink3Description: MK06A Package Page; ComponentLink3URL: http://www.national.com/packaging/folders/mk06a.html
footprint MK06A_N (SOT23, 6-Leads, Body 3.0x1.7mm, Pitch 0.95mm, Lead Span 2.9mm, IPC Medium Density)
footprint MK06A_L (SOT23, 6-Leads, Body 3.0x1.7mm, Pitch 0.95mm, Lead Span 2.9mm, IPC High Density)
footprint MK06A_M (SOT23, 6-Leads, Body 3.0x1.7mm, Pitch 0.95mm, Lead Span 2.9mm, IPC Low Density)
pins: 1 EN (in), 2 GND (power), 3 VOUT (out), 4 LED_rtn (in), 5 SW (power), 6 VIN (power)

## LM3520SD
designator U?
Integrated White LED Driver with Organic LED Display Power Supply; PartNumber: LM3520SD; Manufacturer: National Semiconductor; CompType: MiscPower; PackageTopMarking: ZXYTT*L133B; Published: 4-Dec-2008; DatasheetVersion: Sep-2005; PackageVersion: revA, Jun-2003; PackageReference: SDA14A; Publisher: Altium Limited; PackageDescription: LLP, Plastic, Dual, 4 x 3 x 0.8mm Body, 14 Lead, 0.5mm Pitch, No Pullback; RoHS: Y; PinCount: 14; DigiKeyPartNumber: LM3520SDCT-ND; ComponentLink1Description: LM3520 Datasheet; ComponentLink1URL: http://www.national.com/ds/LM/LM3520.pdf; ComponentLink2Description: LM3520 Web Page; ComponentLink2URL: http://www.national.com/pf/LM/LM3520.html; ComponentLink3Description: SDA14A Package Page; ComponentLink3URL: http://www.national.com/packaging/folders/sda14a.html
footprint SDA14A (SON, 14-Leads, Body 4x3mm, Pitch 0.5mm, NSC Recommended)
pins: 1 VSW (power), 2 VIN (power), 3 AGND (power), 4 NC, 5 MAIN_EN (in), 6 SUB_EN (in), 7 PFM_EN (in), 8 SUB_FB (in), 9 VSUB (power), 10 VO_MAIN (out), 11 MAIN_FB (in), 12 MAIN_RTN (in), 13 DGND (power), 14 NC, 15 EP (power)

## LM3524DM
designator U?
Regulating Pulse Width Modulator; PartNumber: LM3524DM; Manufacturer: National Semiconductor; CompType: MiscPower; PackageTopMarking: NSUZXYTT*LM3524DM; PowerWise: N; Published: 4-Dec-2008; DatasheetVersion: May-2008; PackageVersion: revJ, Aug-1995; PackageReference: M16A; Publisher: Altium Limited; PackageDescription: Molded Package, SO, .150in Wide, 16 Lead; RoHS: O; PinCount: 16; DigiKeyPartNumber: LM3524DM-ND; Code_JEDEC: MS-012-AC; Code_IPC: SOIC127P600-16; ComponentLink1Description: LM3524D Datasheet; ComponentLink1URL: http://www.national.com/ds/LM/LM3524D.pdf; ComponentLink2Description: LM3524D Web Page; ComponentLink2URL: http://www.national.com/pf/LM/LM3524D.html; ComponentLink3Description: M16A Package Page; ComponentLink3URL: http://www.national.com/packaging/folders/m16a.html
footprint M16A_N (SOIC, 16-Leads, Body 9.9x3.9mm, Pitch 1.27mm, IPC Medium Density)
footprint M16A_L (SOIC, 16-Leads, Body 9.9x3.9mm, Pitch 1.27mm, IPC High Density)
footprint M16A_M (SOIC, 16-Leads, Body 9.9x3.9mm, Pitch 1.27mm, IPC Low Density)
pins: 1 INV (in), 2 IN (in), 3 OSC (out), 4 +CL (in), 5 -CL (in), 6 RT, 7 CT, 8 GND (power), 9 COMP (in), 10 SD (in), 11 EA, 12 CA, 13 CB, 14 EB, 15 VIN (power), 16 VR (power)

## LM3524DN
designator U?
Regulating Pulse Width Modulator; PartNumber: LM3524DN; Manufacturer: National Semiconductor; CompType: MiscPower; PackageTopMarking: NSUZXYYTT*LM3524DN; PowerWise: N; Published: 4-Dec-2008; DatasheetVersion: May-2008; PackageVersion: revG, May-2006; PackageReference: N16E; Publisher: Altium Limited; PackageDescription: MDIP, .750 x .250 x .130in, 16 Lead, .100in Pitch; RoHS: O; PinCount: 16; DigiKeyPartNumber: LM3524DN-ND; Code_JEDEC: MS-001-BB; ComponentLink1Description: LM3524D Datasheet; ComponentLink1URL: http://www.national.com/ds/LM/LM3524D.pdf; ComponentLink2Description: LM3524D Web Page; ComponentLink2URL: http://www.national.com/pf/LM/LM3524D.html; ComponentLink3Description: N16E Package Page; ComponentLink3URL: http://www.national.com/packaging/folders/n16e.html
footprint N16E (DIP, 16-Leads, Row Spacing 7.62mm, Pitch 2.54mm, Body 19.3x6.35mm)
pins: 1 INV (in), 2 IN (in), 3 OSC (out), 4 +CL (in), 5 -CL (in), 6 RT, 7 CT, 8 GND (power), 9 COMP (in), 10 SD (in), 11 EA, 12 CA, 13 CB, 14 EB, 15 VIN (power), 16 VR (power)

## LM3525M-H
designator U?
Single Port USB Power Switch and Over-Current Protection; PartNumber: LM3525M-H; Manufacturer: National Semiconductor; CompType: MiscPower; PackageTopMarking: NSZXTT*3525*M-H; PowerWise: N; Published: 4-Dec-2008; DatasheetVersion: Mar-2005; PackageVersion: revL, Sep-2006; PackageReference: M08A; Publisher: Altium Limited; PackageDescription: SOIC Narrow, 4.9 x 3.9 x 1.45mm, 8 Lead, 1.27mm Pitch; RoHS: O; PinCount: 8; DigiKeyPartNumber: LM3525M-H-ND; Code_JEDEC: MS-012-AA; Code_IPC: SOIC127P600-8; ComponentLink1Description: LM3525 Datasheet; ComponentLink1URL: http://www.national.com/ds/LM/LM3525.pdf; ComponentLink2Description: LM3525 Web Page; ComponentLink2URL: http://www.national.com/pf/LM/LM3525.html; ComponentLink3Description: M08A Package Page; ComponentLink3URL: http://www.national.com/packaging/folders/m08a.html
footprint M08A_N (SOIC, 8-Leads, Body 4.9x3.9mm, Pitch 1.27mm, IPC Medium Density)
footprint M08A_L (SOIC, 8-Leads, Body 4.9x3.9mm, Pitch 1.27mm, IPC High Density)
footprint M08A_M (SOIC, 8-Leads, Body 4.9x3.9mm, Pitch 1.27mm, IPC Low Density)
pins: 1 EN (in), 2 FLG (oc), 3 GND (power), 4 NC, 5 NC, 6 OUT (power), 7 IN (power), 8 OUT (power)

## LM3525M-L
designator U?
Single Port USB Power Switch and Over-Current Protection; PartNumber: LM3525M-L; Manufacturer: National Semiconductor; CompType: MiscPower; PackageTopMarking: NSZXTT*3525*M-L; PowerWise: N; Published: 4-Dec-2008; DatasheetVersion: Mar-2005; PackageVersion: revL, Sep-2006; PackageReference: M08A; Publisher: Altium Limited; PackageDescription: SOIC Narrow, 4.9 x 3.9 x 1.45mm, 8 Lead, 1.27mm Pitch; RoHS: O; PinCount: 8; DigiKeyPartNumber: LM3525M-L-ND; Code_JEDEC: MS-012-AA; Code_IPC: SOIC127P600-8; ComponentLink1Description: LM3525 Datasheet; ComponentLink1URL: http://www.national.com/ds/LM/LM3525.pdf; ComponentLink2Description: LM3525 Web Page; ComponentLink2URL: http://www.national.com/pf/LM/LM3525.html; ComponentLink3Description: M08A Package Page; ComponentLink3URL: http://www.national.com/packaging/folders/m08a.html
footprint M08A_N (SOIC, 8-Leads, Body 4.9x3.9mm, Pitch 1.27mm, IPC Medium Density)
footprint M08A_L (SOIC, 8-Leads, Body 4.9x3.9mm, Pitch 1.27mm, IPC High Density)
footprint M08A_M (SOIC, 8-Leads, Body 4.9x3.9mm, Pitch 1.27mm, IPC Low Density)
pins: 1 ~{EN} (in), 2 FLG (oc), 3 GND (power), 4 NC, 5 NC, 6 OUT (power), 7 IN (power), 8 OUT (power)

## LM3526M-H
designator U?
Dual Port USB Power Switch and Over-Current Protection; PartNumber: LM3526M-H; Manufacturer: National Semiconductor; CompType: MiscPower; PackageTopMarking: NSZXTT*3526*M-H; PowerWise: N; Published: 4-Dec-2008; DatasheetVersion: Mar-2005; PackageVersion: revL, Sep-2006; PackageReference: M08A; Publisher: Altium Limited; PackageDescription: SOIC Narrow, 4.9 x 3.9 x 1.45mm, 8 Lead, 1.27mm Pitch; RoHS: O; PinCount: 8; DigiKeyPartNumber: LM3526M-H-ND; Code_JEDEC: MS-012-AA; Code_IPC: SOIC127P600-8; ComponentLink1Description: LM3526 Datasheet; ComponentLink1URL: http://www.national.com/ds/LM/LM3526.pdf; ComponentLink2Description: LM3526 Web Page; ComponentLink2URL: http://www.national.com/pf/LM/LM3526.html; ComponentLink3Description: M08A Package Page; ComponentLink3URL: http://www.national.com/packaging/folders/m08a.html
footprint M08A_N (SOIC, 8-Leads, Body 4.9x3.9mm, Pitch 1.27mm, IPC Medium Density)
footprint M08A_L (SOIC, 8-Leads, Body 4.9x3.9mm, Pitch 1.27mm, IPC High Density)
footprint M08A_M (SOIC, 8-Leads, Body 4.9x3.9mm, Pitch 1.27mm, IPC Low Density)
pins: 1 ENA (in), 2 FLG A (oc), 3 FLG B (oc), 4 ENB (in), 5 OUT B (power), 6 GND (power), 7 IN (power), 8 OUT A (power)

## LM3526M-L
designator U?
Dual Port USB Power Switch and Over-Current Protection; PartNumber: LM3526M-L; Manufacturer: National Semiconductor; CompType: MiscPower; PackageTopMarking: NSZXTT*3526*M-L; PowerWise: N; Published: 4-Dec-2008; DatasheetVersion: Mar-2005; PackageVersion: revL, Sep-2006; PackageReference: M08A; Publisher: Altium Limited; PackageDescription: SOIC Narrow, 4.9 x 3.9 x 1.45mm, 8 Lead, 1.27mm Pitch; RoHS: O; PinCount: 8; DigiKeyPartNumber: LM3526M-L-ND; Code_JEDEC: MS-012-AA; Code_IPC: SOIC127P600-8; ComponentLink1Description: LM3526 Datasheet; ComponentLink1URL: http://www.national.com/ds/LM/LM3526.pdf; ComponentLink2Description: LM3526 Web Page; ComponentLink2URL: http://www.national.com/pf/LM/LM3526.html; ComponentLink3Description: M08A Package Page; ComponentLink3URL: http://www.national.com/packaging/folders/m08a.html
footprint M08A_N (SOIC, 8-Leads, Body 4.9x3.9mm, Pitch 1.27mm, IPC Medium Density)
footprint M08A_L (SOIC, 8-Leads, Body 4.9x3.9mm, Pitch 1.27mm, IPC High Density)
footprint M08A_M (SOIC, 8-Leads, Body 4.9x3.9mm, Pitch 1.27mm, IPC Low Density)
pins: 1 ~{ENA} (in), 2 FLG A (oc), 3 FLG B (oc), 4 ~{ENB} (in), 5 OUT B (power), 6 GND (power), 7 IN (power), 8 OUT A (power)

## LM3528TME
designator U?
High Efficiency, Multi Display LED Driver with 128 Exponential Dimming Steps and Integrated OLED Power Supply in a 1.2mm × 1.6mm µSMD Package; PartNumber: LM3528TME; Manufacturer: National Semiconductor; CompType: MiscPower; PackageTopMarking: XV*I SE; PowerWise: N; Published: 4-Dec-2008; DatasheetVersion: Aug-2008; PackageVersion: revA, 2008; PackageReference: TMD12AAA; Publisher: Altium Limited; PackageDescription: Thin Micro SMD, 12 Bump, 0.4mm Pitch; RoHS: Y; PinCount: 12; ComponentLink1Description: LM3528 Datasheet; ComponentLink1URL: http://www.national.com/ds/LM/LM3528.pdf; ComponentLink2Description: LM3528 Web Page; ComponentLink2URL: http://www.national.com/pf/LM/LM3528.html; ComponentLink3Description: TMD12AAA Package Page; ComponentLink3URL: http://www.national.com/packaging/folders/tmd12aaa.html
footprint TMD12AAA (Micro SMD, 12-Leads, Body 1.62x1.22mm, Pitch 0.4mm, NSC Recommended)
pins: A1 OVP (in), A2 MAIN (in), A3 SUB/FB (in), B1 GPIO1 (io), B2 SCL (in), B3 SET (in), C1 HWEN/PGEN/GPIO (io), C2 SDA (io), C3 IN (power), D1 VIO (in), D2 SW (power), D3 GND (power)

## LM3543M-H
designator U?
Triple Port USB Power Distribution Switch and Over-Current Protection; PartNumber: LM3543M-H; Manufacturer: National Semiconductor; CompType: MiscPower; PackageTopMarking: NSUZXYTT*LM3543M-H; PowerWise: N; Published: 4-Dec-2008; DatasheetVersion: Jun-2005; PackageVersion: revJ, Aug-1995; PackageReference: M16A; Publisher: Altium Limited; PackageDescription: Molded Package, SO, .150in Wide, 16 Lead; RoHS: Y; PinCount: 16; DigiKeyPartNumber: LM3543M-H-ND; Code_JEDEC: MS-012-AC; Code_IPC: SOIC127P600-16; ComponentLink1Description: LM3543 Datasheet; ComponentLink1URL: http://www.national.com/ds/LM/LM3543.pdf; ComponentLink2Description: LM3543 Web Page; ComponentLink2URL: http://www.national.com/pf/LM/LM3543.html; ComponentLink3Description: M16A Package Page; ComponentLink3URL: http://www.national.com/packaging/folders/m16a.html
footprint M16A_N (SOIC, 16-Leads, Body 9.9x3.9mm, Pitch 1.27mm, IPC Medium Density)
footprint M16A_L (SOIC, 16-Leads, Body 9.9x3.9mm, Pitch 1.27mm, IPC High Density)
footprint M16A_M (SOIC, 16-Leads, Body 9.9x3.9mm, Pitch 1.27mm, IPC Low Density)
pins: 1 GND1 (power), 2 IN1 (power), 3 EN1 (in), 4 EN2 (in), 5 GND2 (power), 6 IN2 (power), 7 EN3 (in), 8 NC, 9 NC, 10 NC, 11 OUT3 (power), 12 FLG3 (oc), 13 FLG2 (oc), 14 OUT2 (power), 15 OUT1 (power), 16 FLG1 (oc)

## LM3544M-H
designator U?
Quad Port USB Power Distribution Switch and Over-Current Protection; PartNumber: LM3544M-H; Manufacturer: National Semiconductor; CompType: MiscPower; PackageTopMarking: NSUZXYTT*LM3544M-H; PowerWise: N; Published: 4-Dec-2008; DatasheetVersion: Apr-2005; PackageVersion: revJ, Aug-1995; PackageReference: M16A; Publisher: Altium Limited; PackageDescription: Molded Package, SO, .150in Wide, 16 Lead; RoHS: O; PinCount: 16; DigiKeyPartNumber: LM3544M-H-ND; Code_JEDEC: MS-012-AC; Code_IPC: SOIC127P600-16; ComponentLink1Description: LM3544 Datasheet; ComponentLink1URL: http://www.national.com/ds/LM/LM3544.pdf; ComponentLink2Description: LM3544 Web Page; ComponentLink2URL: http://www.national.com/pf/LM/LM3544.html; ComponentLink3Description: M16A Package Page; ComponentLink3URL: http://www.national.com/packaging/folders/m16a.html
footprint M16A_N (SOIC, 16-Leads, Body 9.9x3.9mm, Pitch 1.27mm, IPC Medium Density)
footprint M16A_L (SOIC, 16-Leads, Body 9.9x3.9mm, Pitch 1.27mm, IPC High Density)
footprint M16A_M (SOIC, 16-Leads, Body 9.9x3.9mm, Pitch 1.27mm, IPC Low Density)
pins: 1 GND1 (power), 2 IN1 (power), 3 EN1 (in), 4 EN2 (in), 5 GND2 (power), 6 IN2 (power), 7 EN3 (in), 8 EN4 (in), 9 FLG4 (oc), 10 OUT4 (power), 11 OUT3 (power), 12 FLG3 (oc), 13 FLG2 (oc), 14 OUT2 (power), 15 OUT1 (power), 16 FLG1 (oc)

## LM3544M-L
designator U?
Quad Port USB Power Distribution Switch and Over-Current Protection; PartNumber: LM3544M-L; Manufacturer: National Semiconductor; CompType: MiscPower; PackageTopMarking: NSUZXYTT*LM3544M-L; PowerWise: N; Published: 4-Dec-2008; DatasheetVersion: Apr-2005; PackageVersion: revJ, Aug-1995; PackageReference: M16A; Publisher: Altium Limited; PackageDescription: Molded Package, SO, .150in Wide, 16 Lead; RoHS: Y; PinCount: 16; DigiKeyPartNumber: LM3544M-L-ND; Code_JEDEC: MS-012-AC; Code_IPC: SOIC127P600-16; ComponentLink1Description: LM3544 Datasheet; ComponentLink1URL: http://www.national.com/ds/LM/LM3544.pdf; ComponentLink2Description: LM3544 Web Page; ComponentLink2URL: http://www.national.com/pf/LM/LM3544.html; ComponentLink3Description: M16A Package Page; ComponentLink3URL: http://www.national.com/packaging/folders/m16a.html
footprint M16A_N (SOIC, 16-Leads, Body 9.9x3.9mm, Pitch 1.27mm, IPC Medium Density)
footprint M16A_L (SOIC, 16-Leads, Body 9.9x3.9mm, Pitch 1.27mm, IPC High Density)
footprint M16A_M (SOIC, 16-Leads, Body 9.9x3.9mm, Pitch 1.27mm, IPC Low Density)
pins: 1 GND1 (power), 2 IN1 (power), 3 ~{EN1} (in), 4 ~{EN2} (in), 5 GND2 (power), 6 IN2 (power), 7 ~{EN3} (in), 8 ~{EN4} (in), 9 FLG4 (oc), 10 OUT4 (power), 11 OUT3 (power), 12 FLG3 (oc), 13 FLG2 (oc), 14 OUT2 (power), 15 OUT1 (power), 16 FLG1 (oc)

## LM3551SD
designator U?
1A White LED Driver with Flash Timeout Protection; PartNumber: LM3551SD; Manufacturer: National Semiconductor; CompType: MiscPower; PackageTopMarking: NS*UZXYTT*L3551SD; PowerWise: Y; Published: 4-Dec-2008; DatasheetVersion: Feb-2006; PackageVersion: revA, Jul-2004; PackageReference: SDA14B; Publisher: Altium Limited; PackageDescription: LLP, Plastic, Dual, 4 x 4 x 0.8mm Body, 14 Lead, 0.5mm Pitch, No Pullback; RoHS: Y; PinCount: 14; DigiKeyPartNumber: LM3551SDCT-ND; ComponentLink1Description: LM3551 Datasheet; ComponentLink1URL: http://www.national.com/ds/LM/LM3551.pdf; ComponentLink2Description: LM3551 Web Page; ComponentLink2URL: http://www.national.com/pf/LM/LM3551.html; ComponentLink3Description: SDA14B Package Page; ComponentLink3URL: http://www.national.com/packaging/folders/sda14b.html
footprint SDA14B (SON, 14-Leads, Body 4x4mm, Pitch 0.5mm, NSC Recommended)
pins: 1 GND (power), 2 FET-F (oc), 3 VC (in), 4 FB (in), 5 SD (in), 6 AGND (power), 7 GND (power), 8 SW (power), 9 VIN (power), 10 OVP (in), 11 SS (in), 12 FTO (in), 13 T/F (in), 14 FET-T (oc), 15 DAP (power)

## LM3552SD
designator U?
1A White LED Driver with Flash Timeout Protection; PartNumber: LM3552SD; Manufacturer: National Semiconductor; CompType: MiscPower; PackageTopMarking: NS*UZXYTT*L3552SD; PowerWise: Y; Published: 4-Dec-2008; DatasheetVersion: Feb-2006; PackageVersion: revA, Jul-2004; PackageReference: SDA14B; Publisher: Altium Limited; PackageDescription: LLP, Plastic, Dual, 4 x 4 x 0.8mm Body, 14 Lead, 0.5mm Pitch, No Pullback; RoHS: Y; PinCount: 14; DigiKeyPartNumber: LM3552SDEV-ND; ComponentLink1Description: LM3552 Datasheet; ComponentLink1URL: http://www.national.com/ds/LM/LM3552.pdf; ComponentLink2Description: LM3552 Web Page; ComponentLink2URL: http://www.national.com/pf/LM/LM3552.html; ComponentLink3Description: SDA14B Package Page; ComponentLink3URL: http://www.national.com/packaging/folders/sda14b.html
footprint SDA14B (SON, 14-Leads, Body 4x4mm, Pitch 0.5mm, NSC Recommended)
pins: 1 GND (power), 2 FET-F (oc), 3 VC (in), 4 FB (in), 5 EN (in), 6 AGND (power), 7 GND (power), 8 SW (power), 9 VIN (power), 10 OVP (in), 11 SS (in), 12 FTO (in), 13 T/F (in), 14 FET-T (oc), 15 DAP (power)

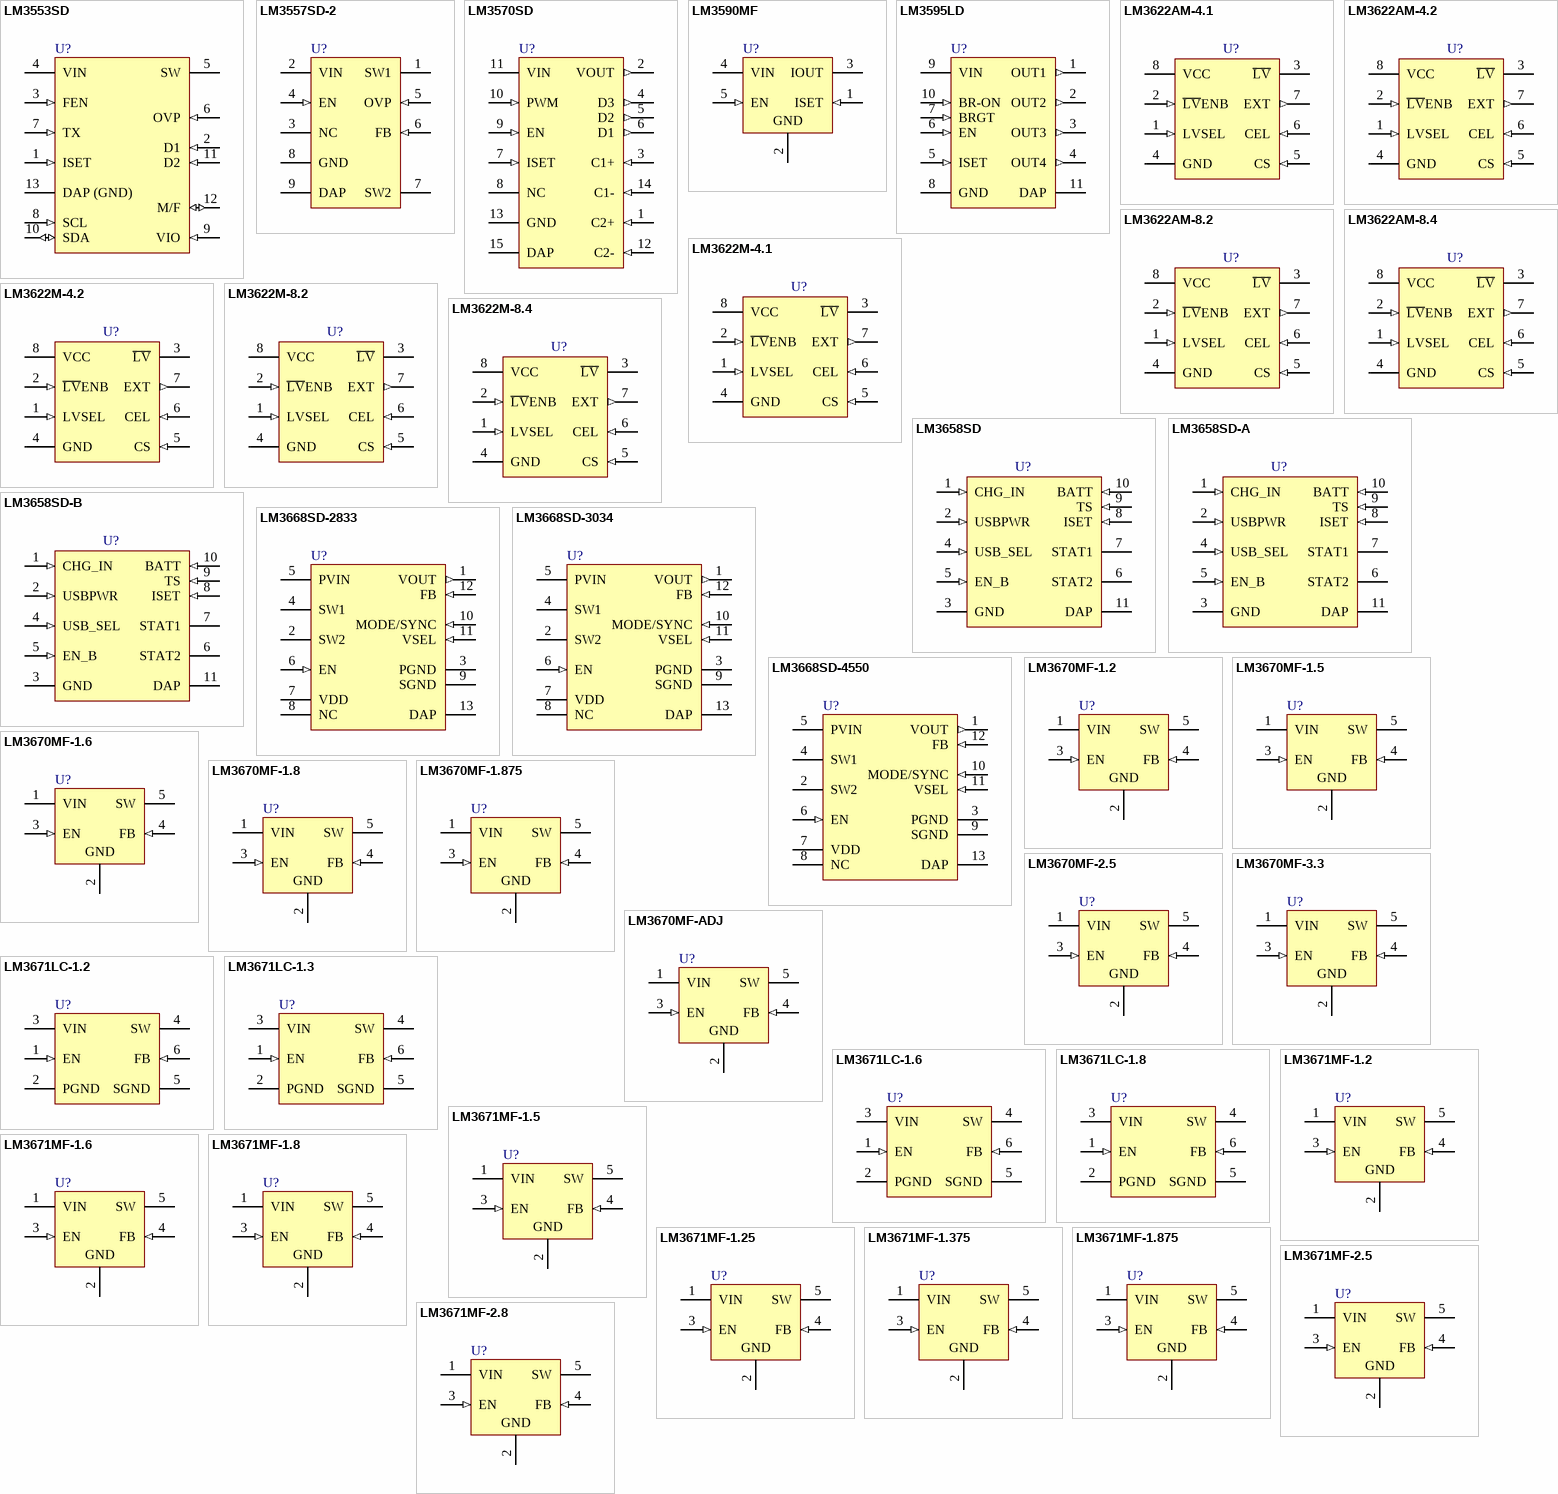
[diagram p10: symbols LM3553SD to LM3671MF-2.8]

## LM3553SD
designator U?
1.2A Dual Flash LED Driver System with I2C Compatible Interface; PartNumber: LM3553SD; Manufacturer: National Semiconductor; CompType: MiscPower; PackageTopMarking: ZXYTT*L3553; PowerWise: Y; Published: 4-Dec-2008; DatasheetVersion: Mar-2008; PackageVersion: revB, Jul-2008; PackageReference: SDF12A; Publisher: Altium Limited; PackageDescription: LLP, Plastic, Dual, 3 x 3 x 0.8mm Body, 12 Lead, 0.4mm Pitch, No Pullback; RoHS: Y; PinCount: 12; DigiKeyPartNumber: LM3553SD-ND; ComponentLink1Description: LM3553 Datasheet; ComponentLink1URL: http://www.national.com/ds/LM/LM3553.pdf; ComponentLink2Description: LM3553 Web Page; ComponentLink2URL: http://www.national.com/pf/LM/LM3553.html; ComponentLink3Description: SDF12A Package Page; ComponentLink3URL: http://www.national.com/packaging/folders/sdf12a.html
footprint SDF12A (SON, 12-Leads, Body 3x3mm, Pitch 0.4mm, NSC Recommended)
pins: 1 ISET (in), 2 D1 (in), 3 FEN (in), 4 VIN (power), 5 SW (power), 6 OVP (in), 7 TX (in), 8 SCL (in), 9 VIO (in), 10 SDA (io), 11 D2 (in), 12 M/F (io), 13 DAP (GND) (power)

## LM3557SD-2
designator U?
Step-Up Converter for White LED Applications; PartNumber: LM3557SD-2; Manufacturer: National Semiconductor; CompType: MiscPower; PackageTopMarking: ZXYTT*L147B; PowerWise: Y; Published: 4-Dec-2008; DatasheetVersion: May-2000; PackageVersion: revA, Aug-2003; PackageReference: SDA08A; Publisher: Altium Limited; PackageDescription: LLP, Plastic, Dual, 3 x 3 x 0.8mm Body, 8 Lead, 0.5mm Pitch, No Pullback; RoHS: Y; PinCount: 8; DigiKeyPartNumber: LM3557SD-2CT-ND; ComponentLink1Description: LM3557 Datasheet; ComponentLink1URL: http://www.national.com/ds/LM/LM3557.pdf; ComponentLink2Description: LM3557 Web Page; ComponentLink2URL: http://www.national.com/pf/LM/LM3557.html; ComponentLink3Description: SDA08A Package Page; ComponentLink3URL: http://www.national.com/packaging/folders/sda08a.html
footprint SDA08A (SON, 8-Leads, Body 3x3mm, Pitch 0.5mm, NSC Recommended)
pins: 1 SW1 (power), 2 VIN (power), 3 NC, 4 EN (in), 5 OVP (in), 6 FB (in), 7 SW2 (power), 8 GND (power), 9 DAP (power)